# Altium schematic symbol library STM32_test_board_sch_lib.SchLib: 8 symbols
Pins are listed as number, name and electrical type; pins without a type are passive.

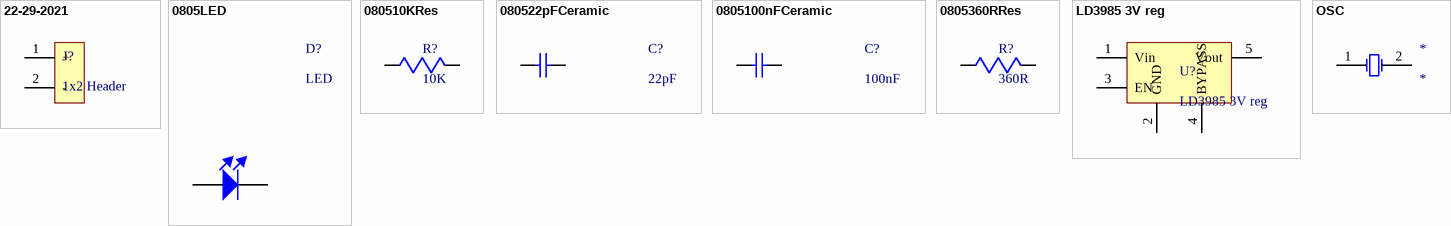
[diagram p0: symbols 22-29-2021 to OSC]

## 22-29-2021
designator J?, comment 1x2 Header
Supplier 1: Allied; Supplier Part Number 1: 70091197; Category: Connectors
footprint HDR1X2
pins: 1 +, 2 -

## 0805LED
designator D?, comment LED
Supplier 1: Allied; Supplier Part Number 1: 70062850; Category: Optoelectronics
footprint 0805LED
pins: 1, 2

## 080510KRes
designator R?, comment 10K
Supplier 1: Allied; Supplier Part Number 1: 70201192; Category: Resistors
footprint R0805
pins: 1, 2

## 080522pFCeramic
designator C?, comment 22pF
Category: Capacitors; Supplier 1: Allied; Supplier Part Number 1: 70001610
footprint C0805
pins: 1, 2

## 0805100nFCeramic
designator C?, comment 100nF
Category: Capacitors; Supplier 1: Allied; Supplier Part Number 1: 70001689
footprint C0805
pins: 1, 2

## 0805360RRes
designator R?, comment 360R
Supplier 1: Allied; Supplier Part Number 1: 70203804; Category: Resistors
footprint R0805
pins: 1, 2

## LD3985 3V reg
designator U?
Category: Integrated Circuits (ICs)
footprint IC REG LINEAR 3.3V
pins: 1 Vin, 2 GND, 3 EN, 4 BYPASS, 5 Vout

## OSC
designator *
pins: 1, 2